# EAGLE library part LT1932 (library openplayer)
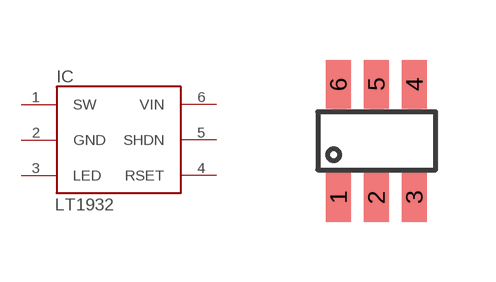
[diagram p1: symbol with the pads of S6; footprint S6]

Designator prefix IC

## LT1932  [S6]
1  SW
2  GND  pwr
3  LED
4  RSET
5  SHDN
6  VIN  pwr

## Footprint S6 (pad centres in mm)
smd 0.62 x 1.22: 1 -0.98,-1.34; 2 -0.03,-1.34; 3 0.92,-1.34; 4 0.92,1.49; 5 -0.03,1.49; 6 -0.98,1.49